# EAGLE library part CON-8 (library firefly)
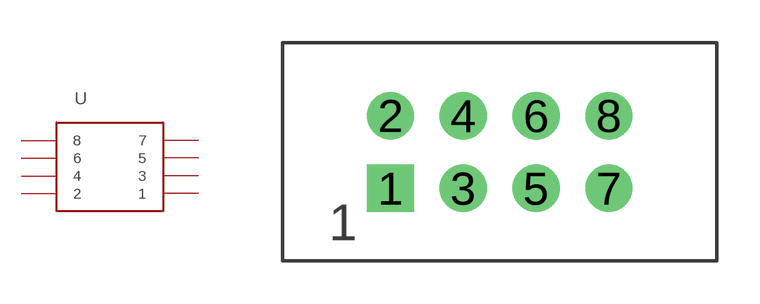
[diagram p41: symbol with the pads of CON-HEADER-2X4; footprint CON-HEADER-2X4]

Designator prefix -

## CON-8CON-HEADER-2X4  [CON-HEADER-2X4]
1  1
2  2
3  3
4  4
5  5
6  6
7  7
8  8

## Footprint CON-HEADER-2X4 (pad centres in mm)
drill 1.102 square: 1 -3.81,-1.27
drill 1.102: 2 -3.81,1.27; 3 -1.27,-1.27; 4 -1.27,1.27; 5 1.27,-1.27; 6 1.27,1.27; 7 3.81,-1.27; 8 3.81,1.27